# EAGLE library part P4S_20_3MM (library ck)
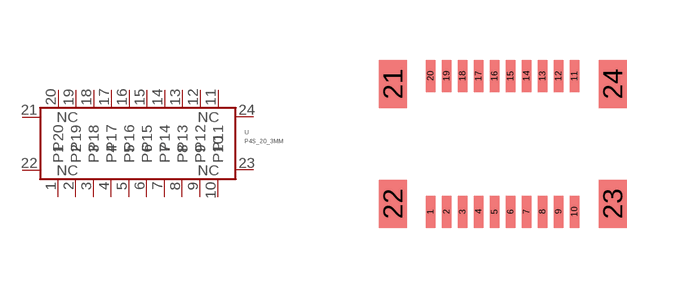
[diagram p9: symbol with the pads of P4S_20MM_3MM; footprint P4S_20MM_3MM]

Designator prefix -

## P4S_20_3MM  [P4S_20MM_3MM]
1  P1
2  P2
3  P3
4  P4
5  P5
6  P6
7  P7
8  P8
9  P9
10  P10
11  P11
12  P12
13  P13
14  P14
15  P15
16  P16
17  P17
18  P18
19  P19
20  P20
21  NC
22  NC
23  NC
24  NC

## Footprint P4S_20MM_3MM (pad centres in mm)
smd 0.23 x 0.8: 1 0.95,-3.2; 2 1.35,-3.2; 3 1.75,-3.2; 4 2.15,-3.2; 5 2.55,-3.2; 6 2.95,-3.2; 7 3.35,-3.2; 8 3.75,-3.2; 9 4.15,-3.2; 10 4.55,-3.2; 11 4.55,0.2; 12 4.15,0.2; 13 3.75,0.2; 14 3.35,0.2; 15 2.95,0.2; 16 2.55,0.2; 17 2.15,0.2; 18 1.75,0.2; 19 1.35,0.2; 20 0.95,0.2
smd 0.7 x 1.2: 21 0,0; 22 0,-3; 23 5.5,-3; 24 5.5,0